# Altium schematic symbol library 14pin_relay.SchLib: 1 symbol
Pins are listed as number, name and electrical type; pins without a type are passive.

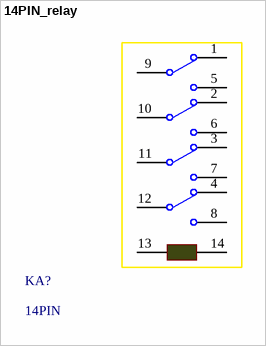
[diagram p0: symbol 14PIN_relay]

## 14PIN_relay
designator KA?, comment 14PIN
14脚继电器
pins: 1, 2, 3, 4, 5, 6, 7, 8, 9, 10, 11, 12, 13, 14